# Altium integrated library 数码管.IntLib: 30 symbols
Pins are listed as number, name and electrical type; pins without a type are passive.

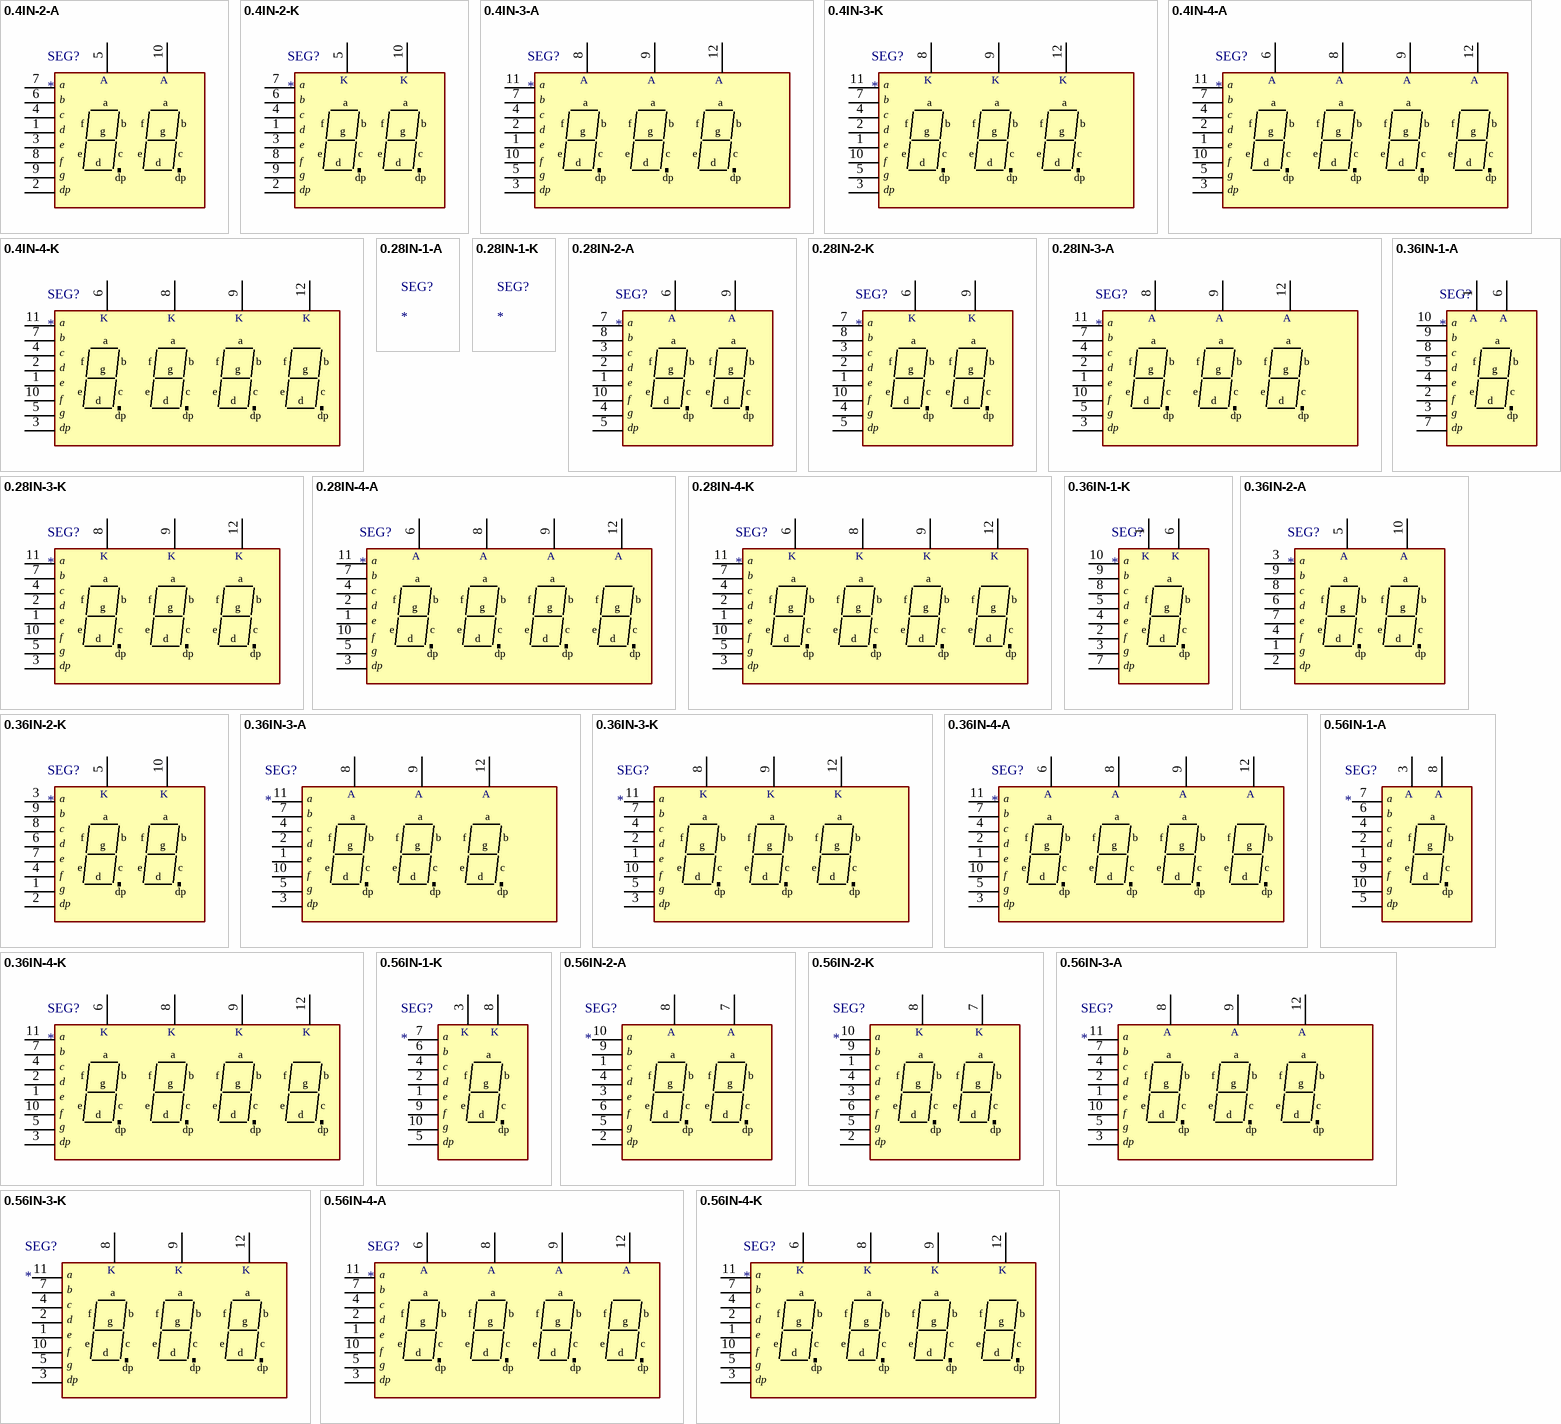
[diagram p0: symbols 0.4IN-2-A to 0.56IN-4-K]

## 0.4IN-2-A
designator SEG?
2位0.4寸共阳数码管
footprint 0.4IN-2P
pins: 1, 2, 3, 4, 5, 6, 7, 8, 9, 10
text: A; a; b; c; f; d; g; e; dp

## 0.4IN-2-K
designator SEG?
2位0.4寸共阴数码管
footprint 0.4IN-2P
pins: 1, 2, 3, 4, 5, 6, 7, 8, 9, 10
text: K; a; b; c; f; d; g; e; dp

## 0.4IN-3-A
designator SEG?
3位0.4寸共阳数码管
footprint 0.4IN-3P
footprint Model Name (Model Description)
pins: 1, 2, 3, 4, 5, 7, 8, 9, 10, 11, 12
text: A; a; b; c; f; d; g; e; dp

## 0.4IN-3-K
designator SEG?
3位0.4寸共阴数码管
footprint 0.4IN-3P
pins: 1, 2, 3, 4, 5, 7, 8, 9, 10, 11, 12
text: K; a; b; c; f; d; g; e; dp

## 0.4IN-4-A
designator SEG?
4位0.4寸共阳数码管
footprint 0.4IN-4P
pins: 1, 2, 3, 4, 5, 6, 7, 8, 9, 10, 11, 12
text: A; a; b; c; f; d; g; e; dp

## 0.4IN-4-K
designator SEG?
4位0.4寸共阴数码管
footprint 0.4IN-4P
pins: 1, 2, 3, 4, 5, 6, 7, 8, 9, 10, 11, 12
text: K; a; b; c; f; d; g; e; dp

## 0.28IN-1-A
designator SEG?
1位0.28寸共阳数码管

## 0.28IN-1-K
designator SEG?
1位0.28寸共阴数码管

## 0.28IN-2-A
designator SEG?
2位0.28寸共阳数码管
footprint Model Name (Model Description)
pins: 1, 2, 3, 4, 5, 6, 7, 8, 9, 10
text: A; a; b; c; f; d; g; e; dp

## 0.28IN-2-K
designator SEG?
2位0.28寸共阴数码管
pins: 1, 2, 3, 4, 5, 6, 7, 8, 9, 10
text: K; a; b; c; f; d; g; e; dp

## 0.28IN-3-A
designator SEG?
3位0.28寸共阳数码管
pins: 1, 2, 3, 4, 5, 7, 8, 9, 10, 11, 12
text: A; a; b; c; f; d; g; e; dp

## 0.28IN-3-K
designator SEG?
3位0.28寸共阴数码管
pins: 1, 2, 3, 4, 5, 7, 8, 9, 10, 11, 12
text: K; a; b; c; f; d; g; e; dp

## 0.28IN-4-A
designator SEG?
4位0.28寸共阳数码管
pins: 1, 2, 3, 4, 5, 6, 7, 8, 9, 10, 11, 12
text: A; a; b; c; f; d; g; e; dp

## 0.28IN-4-K
designator SEG?
4位0.28寸共阴数码管
pins: 1, 2, 3, 4, 5, 6, 7, 8, 9, 10, 11, 12
text: K; a; b; c; f; d; g; e; dp

## 0.36IN-1-A
designator SEG?
1位0.36寸共阳数码管
footprint 0.36IN-1P
pins: 1, 2, 3, 4, 5, 6, 7, 8, 9, 10
text: A; a; b; c; f; d; g; e; dp

## 0.36IN-1-K
designator SEG?
1位0.36寸共阴数码管
footprint 0.36IN-1P
pins: 1, 2, 3, 4, 5, 6, 7, 8, 9, 10
text: K; a; b; c; f; d; g; e; dp

## 0.36IN-2-A
designator SEG?
2位0.36寸共阳数码管
footprint 0.36IN-2P
pins: 1, 2, 3, 4, 5, 6, 7, 8, 9, 10
text: A; a; b; c; f; d; g; e; dp

## 0.36IN-2-K
designator SEG?
2位0.36寸共阴数码管
footprint 0.36IN-2P
pins: 1, 2, 3, 4, 5, 6, 7, 8, 9, 10
text: K; a; b; c; f; d; g; e; dp

## 0.36IN-3-A
designator SEG?
3位0.36寸共阳数码管
footprint 0.36IN-3P
pins: 1, 2, 3, 4, 5, 7, 8, 9, 10, 11, 12
text: A; a; b; c; f; d; g; e; dp

## 0.36IN-3-K
designator SEG?
3位0.36寸共阴数码管
footprint 0.36IN-3P
pins: 1, 2, 3, 4, 5, 7, 8, 9, 10, 11, 12
text: K; a; b; c; f; d; g; e; dp

## 0.36IN-4-A
designator SEG?
4位0.36寸共阳数码管
footprint 0.36IN-4P
pins: 1, 2, 3, 4, 5, 6, 7, 8, 9, 10, 11, 12
text: A; a; b; c; f; d; g; e; dp

## 0.36IN-4-K
designator SEG?
4位0.36寸共阴数码管
footprint 0.36IN-4P
pins: 1, 2, 3, 4, 5, 6, 7, 8, 9, 10, 11, 12
text: K; a; b; c; f; d; g; e; dp

## 0.56IN-1-A
designator SEG?
1位0.56寸共阳数码管
footprint 0.56IN-1P
pins: 1, 2, 3 VCC, 4, 5, 6, 7, 8, 9, 10
text: A; a; b; c; f; d; g; e; dp

## 0.56IN-1-K
designator SEG?
1位0.56寸共阴数码管
footprint 0.56IN-1P
pins: 1, 2, 3 VCC, 4, 5, 6, 7, 8, 9, 10
text: K; a; b; c; f; d; g; e; dp

## 0.56IN-2-A
designator SEG?
2位0.56寸共阳数码管
footprint 0.56IN-2P
pins: 1, 2, 3, 4, 5, 6, 7, 8, 9, 10
text: A; a; b; c; f; d; g; e; dp

## 0.56IN-2-K
designator SEG?
2位0.56寸共阴数码管
footprint 0.56IN-2P
pins: 1, 2, 3, 4, 5, 6, 7, 8, 9, 10
text: K; a; b; c; f; d; g; e; dp

## 0.56IN-3-A
designator SEG?
3位0.56寸共阳数码管
footprint 0.56IN-3P
pins: 1, 2, 3, 4, 5, 7, 8, 9, 10, 11, 12
text: A; a; b; c; f; d; g; e; dp

## 0.56IN-3-K
designator SEG?
3位0.56寸共阴数码管
footprint 0.56IN-3P
pins: 1, 2, 3, 4, 5, 7, 8, 9, 10, 11, 12
text: K; a; b; c; f; d; g; e; dp

## 0.56IN-4-A
designator SEG?
4位0.56寸共阳数码管
footprint 0.56IN-4P
pins: 1, 2, 3, 4, 5, 6, 7, 8, 9, 10, 11, 12
text: A; a; b; c; f; d; g; e; dp

## 0.56IN-4-K
designator SEG?
4位0.56寸共阴数码管
footprint 0.56IN-4P
pins: 1, 2, 3, 4, 5, 6, 7, 8, 9, 10, 11, 12
text: K; a; b; c; f; d; g; e; dp